# Altium integrated library Analog Devices Data Converters Analog-to-Digital Converters.IntLib: 2400 symbols (part 327 of 338)
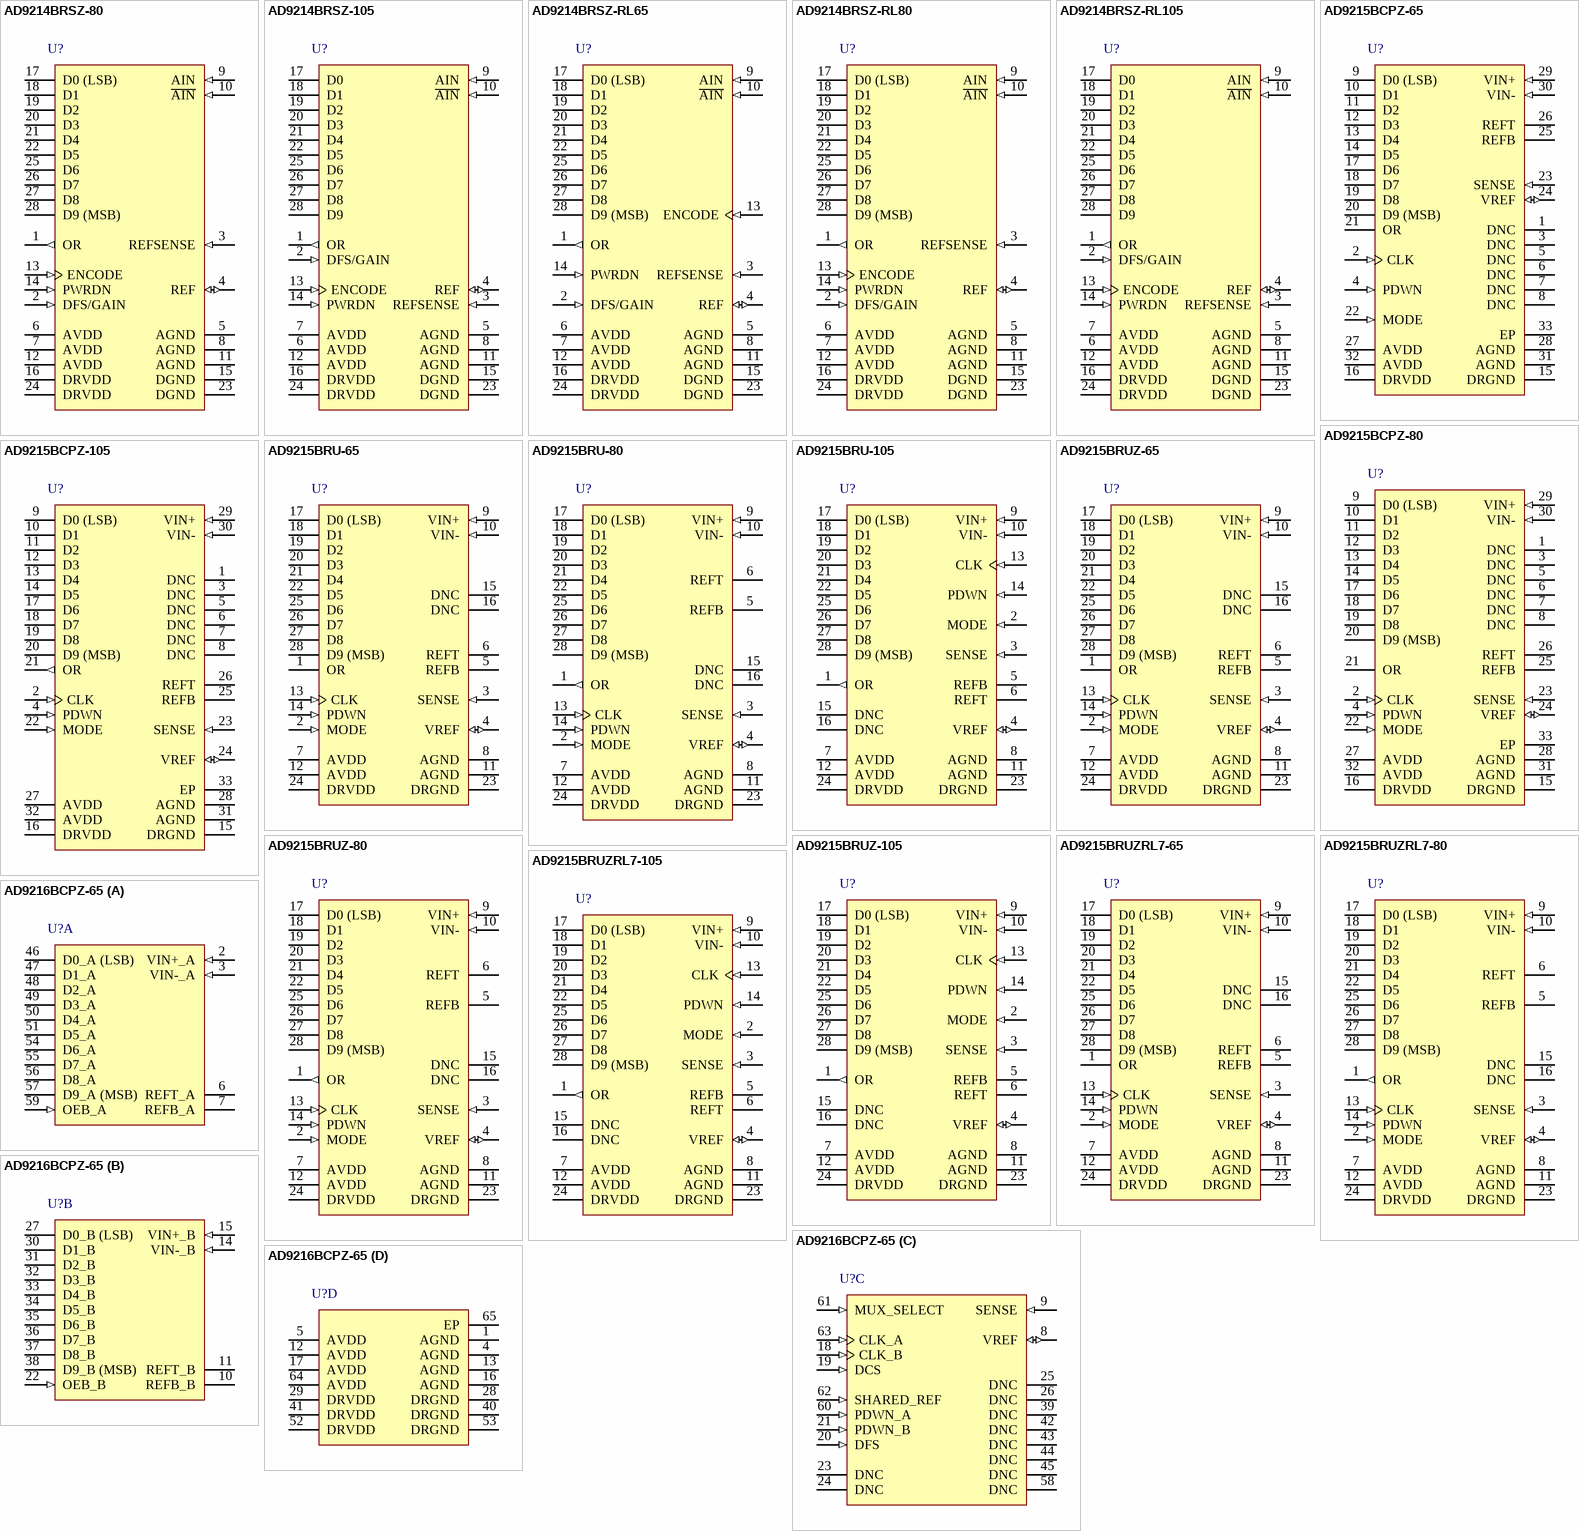
[diagram p333: symbols AD9214BRSZ-80 to AD9216BCPZ-65]

## AD9215BRUZ-65
designator U?
Single 10-Bit Analog-to-Digital Converter with Parallel Interface, 65MSPS, -40 to +85 degC, RU-28, Pb-Free, Tube; Part Number: AD9215-65; Manufacturer: Analog Devices; Resolution (Bits): 10; Channels: 1; Throughput Rate (SPS): 65M; Interface: Par; DatasheetVersion: Rev.A; PackageVersion: 2005; PackageReference: RU-28; PackageDescription: 28-Lead Thin Shrink Small Outline Package [TSSOP]; RoHS: Y; Packing: Tube; Mounting Technology: Surface Mount; Code_JEDEC: MO-153-AE; ComponentLink1Description: Manufacturer URL; ComponentLink1URL: http://www.analog.com/en/index.html; ComponentLink2Description: Datasheet; ComponentLink2URL: http://www.analog.com/static/imported-files/data_sheets/AD9215.pdf; ComponentLink3Description: Package Specification; ComponentLink3URL: http://www.analog.com/static/imported-files/packages/249854663RU_28.pdf; ComponentLink4Description: Product URL; ComponentLink4URL: http://www.analog.com/en/analog-to-digital-converters/ad-converters/ad9215/products/product.html
footprint RU-28_N (TSOP, 28-Leads, Body 9.7x4.4mm, Pitch 0.65mm, IPC Medium Density)
footprint RU-28_L (TSOP, 28-Leads, Body 9.7x4.4mm, Pitch 0.65mm, IPC High Density)
footprint RU-28_M (TSOP, 28-Leads, Body 9.7x4.4mm, Pitch 0.65mm, IPC Low Density)
pins: 1 OR (hiz) "Out-of-Range Indicator.", 2 MODE (in) "Data Format and Clock Duty Cycle Stabilizer (DCS) Mode Selection.", 3 SENSE (in) "Reference Mode Selection.", 4 VREF (io) "Voltage Reference Input/Output.", 5 REFB "Differential Reference (Negative).", 6 REFT "Differential Reference (Positive).", 7 AVDD (power) "Analog Power Supply.", 8 AGND (power) "Analog Ground.", 9 VIN+ (in) "Analog Input Pin (+).", 10 VIN- (in) "Analog Input Pin (-).", 11 AGND (power) "Analog Ground.", 12 AVDD (power) "Analog Power Supply.", 13 CLK (in) "Clock Input Pin.", 14 PDWN (in) "Power-Down Function Selection (Active High).", 15 DNC "Do not connect, recommend floating this pin.", 16 DNC "Do not connect, recommend floating this pin.", 17 D0 (LSB) (hiz) "Data Output Bits.", 18 D1 (hiz) "Data Output Bits.", 19 D2 (hiz) "Data Output Bits.", 20 D3 (hiz) "Data Output Bits.", 21 D4 (hiz) "Data Output Bits.", 22 D5 (hiz) "Data Output Bits.", 23 DRGND (power) "Digital Output Ground.", 24 DRVDD (power) "Digital Output Driver Supply. Must be decoupled to DRGND with a minimum 0.1 uF capacitor. Recommended decoupling is 0.1 uF in parallel with 10 uF.", 25 D6 (hiz) "Data Output Bits.", 26 D7 (hiz) "Data Output Bits.", 27 D8 (hiz) "Data Output Bits.", 28 D9 (MSB) (hiz) "Data Output Bits."

## AD9215BRUZ-80
designator U?
Single 10-Bit Analog-to-Digital Converter with Parallel Interface, 80MSPS, -40 to +85 degC, RU-28, Pb-Free, Tube; Part Number: AD9215-80; Manufacturer: Analog Devices; Resolution (Bits): 10; Channels: 1; Throughput Rate (SPS): 80M; Interface: Par; DatasheetVersion: Rev.A; PackageVersion: 2005; PackageReference: RU-28; PackageDescription: 28-Lead Thin Shrink Small Outline Package [TSSOP]; RoHS: Y; Packing: Tube; Mounting Technology: Surface Mount; Code_JEDEC: MO-153-AE; ComponentLink1Description: Manufacturer URL; ComponentLink1URL: http://www.analog.com/en/index.html; ComponentLink2Description: Datasheet; ComponentLink2URL: http://www.analog.com/static/imported-files/data_sheets/AD9215.pdf; ComponentLink3Description: Package Specification; ComponentLink3URL: http://www.analog.com/static/imported-files/packages/249854663RU_28.pdf; ComponentLink4Description: Product URL; ComponentLink4URL: http://www.analog.com/en/analog-to-digital-converters/ad-converters/ad9215/products/product.html
footprint RU-28_N (TSOP, 28-Leads, Body 9.7x4.4mm, Pitch 0.65mm, IPC Medium Density)
footprint RU-28_L (TSOP, 28-Leads, Body 9.7x4.4mm, Pitch 0.65mm, IPC High Density)
footprint RU-28_M (TSOP, 28-Leads, Body 9.7x4.4mm, Pitch 0.65mm, IPC Low Density)
pins: 1 OR (out) "Out-of-Range Indicator.", 2 MODE (in) "Data Format and Clock Duty Cycle Stabilizer (DCS) Mode Selection.", 3 SENSE (in) "Reference Mode Selection.", 4 VREF (io) "Voltage Reference Input/Output.", 5 REFB "Differential Reference (Negative).", 6 REFT "Differential Reference (Positive).", 7 AVDD (power) "Analog Power Supply.", 8 AGND (power) "Analog Ground.", 9 VIN+ (in) "Analog Input Pin (+).", 10 VIN- (in) "Analog Input Pin (-).", 11 AGND (power) "Analog Ground.", 12 AVDD (power) "Analog Power Supply.", 13 CLK (in) "Clock Input Pin.", 14 PDWN (in) "Power-Down Function Selection (Active High).", 15 DNC "Do not connect, recommend floating this pin.", 16 DNC "Do not connect, recommend floating this pin.", 17 D0 (LSB) (hiz) "Data Output Bits.", 18 D1 (hiz) "Data Output Bits.", 19 D2 (hiz) "Data Output Bits.", 20 D3 (hiz) "Data Output Bits.", 21 D4 (hiz) "Data Output Bits.", 22 D5 (hiz) "Data Output Bits.", 23 DRGND (power) "Digital Output Ground.", 24 DRVDD (power) "Digital Output Driver Supply. Must be decoupled to DRGND with a minimum 0.1 uF capacitor. Recommended decoupling is 0.1 uF in parallel with 10 uF.", 25 D6 (hiz) "Data Output Bits.", 26 D7 (hiz) "Data Output Bits.", 27 D8 (hiz) "Data Output Bits.", 28 D9 (MSB) (hiz) "Data Output Bits."

## AD9215BRUZ-105
designator U?
Single 10-Bit Analog-to-Digital Converter with Parallel Interface, 105MSPS, -40 to +85 degC, RU-28, Pb-Free,Tube; Part Number: AD9215-105; Manufacturer: Analog Devices; Resolution (Bits): 10; Channels: 1; Throughput Rate (SPS): 105M; Interface: Par; DatasheetVersion: Rev.A; PackageVersion: 2005; PackageReference: RU-28; PackageDescription: 28-Lead Thin Shrink Small Outline Package [TSSOP]; RoHS: Y; Packing: Tube; Mounting Technology: Surface Mount; Code_JEDEC: MO-153-AE; ComponentLink1Description: Manufacturer URL; ComponentLink1URL: http://www.analog.com/en/index.html; ComponentLink2Description: Datasheet; ComponentLink2URL: http://www.analog.com/static/imported-files/data_sheets/AD9215.pdf; ComponentLink3Description: Package Specification; ComponentLink3URL: http://www.analog.com/static/imported-files/packages/249854663RU_28.pdf; ComponentLink4Description: Product URL; ComponentLink4URL: http://www.analog.com/en/analog-to-digital-converters/ad-converters/ad9215/products/product.html
footprint RU-28_N (TSOP, 28-Leads, Body 9.7x4.4mm, Pitch 0.65mm, IPC Medium Density)
footprint RU-28_L (TSOP, 28-Leads, Body 9.7x4.4mm, Pitch 0.65mm, IPC High Density)
footprint RU-28_M (TSOP, 28-Leads, Body 9.7x4.4mm, Pitch 0.65mm, IPC Low Density)
pins: 1 OR (out) "Out-of-Range Indicator.", 2 MODE (in) "Data Format and Clock Duty Cycle Stabilizer (DCS) Mode Selection.", 3 SENSE (in) "Reference Mode Selection.", 4 VREF (io) "Voltage Reference Input/Output.", 5 REFB "Differential Reference (Negative).", 6 REFT "Differential Reference (Positive).", 7 AVDD (power) "Analog Power Supply.", 8 AGND (power) "Analog Ground.", 9 VIN+ (in) "Analog Input Pin (+).", 10 VIN- (in) "Analog Input Pin (-).", 11 AGND (power) "Analog Ground.", 12 AVDD (power) "Analog Power Supply.", 13 CLK (in) "Clock Input Pin.", 14 PDWN (in) "Power-Down Function Selection (Active High).", 15 DNC "Do not connect, recommend floating this pin.", 16 DNC "Do not connect, recommend floating this pin.", 17 D0 (LSB) (hiz) "Data Output Bits.", 18 D1 (hiz) "Data Output Bits.", 19 D2 (hiz) "Data Output Bits.", 20 D3 (hiz) "Data Output Bits.", 21 D4 (hiz) "Data Output Bits.", 22 D5 (hiz) "Data Output Bits.", 23 DRGND (power) "Digital Output Ground.", 24 DRVDD (power) "Digital Output Driver Supply. Must be decoupled to DRGND with a minimum 0.1 uF capacitor. Recommended decoupling is 0.1 uF in parallel with 10 uF.", 25 D6 (hiz) "Data Output Bits.", 26 D7 (hiz) "Data Output Bits.", 27 D8 (hiz) "Data Output Bits.", 28 D9 (MSB) (hiz) "Data Output Bits."

## AD9215BRUZRL7-65
designator U?
Single 10-Bit Analog-to-Digital Converter with Parallel Interface, 65MSPS, -40 to +85 degC, RU-28, Pb-Free, Reel; Part Number: AD9215-65; Manufacturer: Analog Devices; Resolution (Bits): 10; Channels: 1; Throughput Rate (SPS): 65M; Interface: Par; DatasheetVersion: Rev.A; PackageVersion: 2005; PackageReference: RU-28; PackageDescription: 28-Lead Thin Shrink Small Outline Package [TSSOP]; RoHS: Y; Packing: Reel; Mounting Technology: Surface Mount; Code_JEDEC: MO-153-AE; ComponentLink1Description: Manufacturer URL; ComponentLink1URL: http://www.analog.com/en/index.html; ComponentLink2Description: Datasheet; ComponentLink2URL: http://www.analog.com/static/imported-files/data_sheets/AD9215.pdf; ComponentLink3Description: Package Specification; ComponentLink3URL: http://www.analog.com/static/imported-files/packages/249854663RU_28.pdf; ComponentLink4Description: Product URL; ComponentLink4URL: http://www.analog.com/en/analog-to-digital-converters/ad-converters/ad9215/products/product.html
footprint RU-28_N (TSOP, 28-Leads, Body 9.7x4.4mm, Pitch 0.65mm, IPC Medium Density)
footprint RU-28_L (TSOP, 28-Leads, Body 9.7x4.4mm, Pitch 0.65mm, IPC High Density)
footprint RU-28_M (TSOP, 28-Leads, Body 9.7x4.4mm, Pitch 0.65mm, IPC Low Density)
pins: 1 OR (hiz) "Out-of-Range Indicator.", 2 MODE (in) "Data Format and Clock Duty Cycle Stabilizer (DCS) Mode Selection.", 3 SENSE (in) "Reference Mode Selection.", 4 VREF (io) "Voltage Reference Input/Output.", 5 REFB "Differential Reference (Negative).", 6 REFT "Differential Reference (Positive).", 7 AVDD (power) "Analog Power Supply.", 8 AGND (power) "Analog Ground.", 9 VIN+ (in) "Analog Input Pin (+).", 10 VIN- (in) "Analog Input Pin (-).", 11 AGND (power) "Analog Ground.", 12 AVDD (power) "Analog Power Supply.", 13 CLK (in) "Clock Input Pin.", 14 PDWN (in) "Power-Down Function Selection (Active High).", 15 DNC "Do not connect, recommend floating this pin.", 16 DNC "Do not connect, recommend floating this pin.", 17 D0 (LSB) (hiz) "Data Output Bits.", 18 D1 (hiz) "Data Output Bits.", 19 D2 (hiz) "Data Output Bits.", 20 D3 (hiz) "Data Output Bits.", 21 D4 (hiz) "Data Output Bits.", 22 D5 (hiz) "Data Output Bits.", 23 DRGND (power) "Digital Output Ground.", 24 DRVDD (power) "Digital Output Driver Supply. Must be decoupled to DRGND with a minimum 0.1 uF capacitor. Recommended decoupling is 0.1 uF in parallel with 10 uF.", 25 D6 (hiz) "Data Output Bits.", 26 D7 (hiz) "Data Output Bits.", 27 D8 (hiz) "Data Output Bits.", 28 D9 (MSB) (hiz) "Data Output Bits."

## AD9215BRUZRL7-80
designator U?
Single 10-Bit Analog-to-Digital Converter with Parallel Interface, 80MSPS, -40 to +85 degC, RU-28, Pb-Free, Reel; Part Number: AD9215-80; Manufacturer: Analog Devices; Resolution (Bits): 10; Channels: 1; Throughput Rate (SPS): 80M; Interface: Par; DatasheetVersion: Rev.A; PackageVersion: 2005; PackageReference: RU-28; PackageDescription: 28-Lead Thin Shrink Small Outline Package [TSSOP]; RoHS: Y; Packing: Reel; Mounting Technology: Surface Mount; Code_JEDEC: MO-153-AE; ComponentLink1Description: Manufacturer URL; ComponentLink1URL: http://www.analog.com/en/index.html; ComponentLink2Description: Datasheet; ComponentLink2URL: http://www.analog.com/static/imported-files/data_sheets/AD9215.pdf; ComponentLink3Description: Package Specification; ComponentLink3URL: http://www.analog.com/static/imported-files/packages/249854663RU_28.pdf; ComponentLink4Description: Product URL; ComponentLink4URL: http://www.analog.com/en/analog-to-digital-converters/ad-converters/ad9215/products/product.html
footprint RU-28_N (TSOP, 28-Leads, Body 9.7x4.4mm, Pitch 0.65mm, IPC Medium Density)
footprint RU-28_L (TSOP, 28-Leads, Body 9.7x4.4mm, Pitch 0.65mm, IPC High Density)
footprint RU-28_M (TSOP, 28-Leads, Body 9.7x4.4mm, Pitch 0.65mm, IPC Low Density)
pins: 1 OR (out) "Out-of-Range Indicator.", 2 MODE (in) "Data Format and Clock Duty Cycle Stabilizer (DCS) Mode Selection.", 3 SENSE (in) "Reference Mode Selection.", 4 VREF (io) "Voltage Reference Input/Output.", 5 REFB "Differential Reference (Negative).", 6 REFT "Differential Reference (Positive).", 7 AVDD (power) "Analog Power Supply.", 8 AGND (power) "Analog Ground.", 9 VIN+ (in) "Analog Input Pin (+).", 10 VIN- (in) "Analog Input Pin (-).", 11 AGND (power) "Analog Ground.", 12 AVDD (power) "Analog Power Supply.", 13 CLK (in) "Clock Input Pin.", 14 PDWN (in) "Power-Down Function Selection (Active High).", 15 DNC "Do not connect, recommend floating this pin.", 16 DNC "Do not connect, recommend floating this pin.", 17 D0 (LSB) (hiz) "Data Output Bits.", 18 D1 (hiz) "Data Output Bits.", 19 D2 (hiz) "Data Output Bits.", 20 D3 (hiz) "Data Output Bits.", 21 D4 (hiz) "Data Output Bits.", 22 D5 (hiz) "Data Output Bits.", 23 DRGND (power) "Digital Output Ground.", 24 DRVDD (power) "Digital Output Driver Supply. Must be decoupled to DRGND with a minimum 0.1 uF capacitor. Recommended decoupling is 0.1 uF in parallel with 10 uF.", 25 D6 (hiz) "Data Output Bits.", 26 D7 (hiz) "Data Output Bits.", 27 D8 (hiz) "Data Output Bits.", 28 D9 (MSB) (hiz) "Data Output Bits."

## AD9215BRUZRL7-105
designator U?
Single 10-Bit Analog-to-Digital Converter with Parallel Interface, 105MSPS, -40 to +85 degC, RU-28, Pb-Free,Reel; Part Number: AD9215-105; Manufacturer: Analog Devices; Resolution (Bits): 10; Channels: 1; Throughput Rate (SPS): 105M; Interface: Par; DatasheetVersion: Rev.A; PackageVersion: 2005; PackageReference: RU-28; PackageDescription: 28-Lead Thin Shrink Small Outline Package [TSSOP]; RoHS: Y; Packing: Reel; Mounting Technology: Surface Mount; Code_JEDEC: MO-153-AE; ComponentLink1Description: Manufacturer URL; ComponentLink1URL: http://www.analog.com/en/index.html; ComponentLink2Description: Datasheet; ComponentLink2URL: http://www.analog.com/static/imported-files/data_sheets/AD9215.pdf; ComponentLink3Description: Package Specification; ComponentLink3URL: http://www.analog.com/static/imported-files/packages/249854663RU_28.pdf; ComponentLink4Description: Product URL; ComponentLink4URL: http://www.analog.com/en/analog-to-digital-converters/ad-converters/ad9215/products/product.html
footprint RU-28_N (TSOP, 28-Leads, Body 9.7x4.4mm, Pitch 0.65mm, IPC Medium Density)
footprint RU-28_L (TSOP, 28-Leads, Body 9.7x4.4mm, Pitch 0.65mm, IPC High Density)
footprint RU-28_M (TSOP, 28-Leads, Body 9.7x4.4mm, Pitch 0.65mm, IPC Low Density)
pins: 1 OR (out) "Out-of-Range Indicator.", 2 MODE (in) "Data Format and Clock Duty Cycle Stabilizer (DCS) Mode Selection.", 3 SENSE (in) "Reference Mode Selection.", 4 VREF (io) "Voltage Reference Input/Output.", 5 REFB "Differential Reference (Negative).", 6 REFT "Differential Reference (Positive).", 7 AVDD (power) "Analog Power Supply.", 8 AGND (power) "Analog Ground.", 9 VIN+ (in) "Analog Input Pin (+).", 10 VIN- (in) "Analog Input Pin (-).", 11 AGND (power) "Analog Ground.", 12 AVDD (power) "Analog Power Supply.", 13 CLK (in) "Clock Input Pin.", 14 PDWN (in) "Power-Down Function Selection (Active High).", 15 DNC "Do not connect, recommend floating this pin.", 16 DNC "Do not connect, recommend floating this pin.", 17 D0 (LSB) (hiz) "Data Output Bits.", 18 D1 (hiz) "Data Output Bits.", 19 D2 (hiz) "Data Output Bits.", 20 D3 (hiz) "Data Output Bits.", 21 D4 (hiz) "Data Output Bits.", 22 D5 (hiz) "Data Output Bits.", 23 DRGND (power) "Digital Output Ground.", 24 DRVDD (power) "Digital Output Driver Supply. Must be decoupled to DRGND with a minimum 0.1 uF capacitor. Recommended decoupling is 0.1 uF in parallel with 10 uF.", 25 D6 (hiz) "Data Output Bits.", 26 D7 (hiz) "Data Output Bits.", 27 D8 (hiz) "Data Output Bits.", 28 D9 (MSB) (hiz) "Data Output Bits."

## AD9216BCPZ-65
designator U?
Dual 10-Bit Analog-to-Digital Converter with Parallel Interface, 65MSPS, -40 to +85 degC, CP-64-1, Pb-Free, Tray; Part Number: AD9216-65; Manufacturer: Analog Devices; Resolution (Bits): 10; Channels: 2; Throughput Rate (SPS): 65M; Interface: Par; DatasheetVersion: Rev.A; PackageVersion: Aug-2007; PackageReference: CP-64-1; PackageDescription: 64-Lead Lead Frame Chip Scale Package [LFCSP_VQ] 9 x 9 mm Body, Very Thin Quad; RoHS: Y; Packing: Tray; Mounting Technology: Surface Mount; Code_JEDEC: MO-220-VMMD-4; ComponentLink1Description: Manufacturer URL; ComponentLink1URL: http://www.analog.com/en/index.html; ComponentLink2Description: Datasheet; ComponentLink2URL: http://www.analog.com/static/imported-files/data_sheets/AD9216.pdf; ComponentLink3Description: Package Specification; ComponentLink3URL: http://www.analog.com/static/imported-files/packages/PKG_PDF/LFCSP(CP)/CP-64/CP_64_1.pdf; ComponentLink4Description: Product URL; ComponentLink4URL: http://www.analog.com/en/analog-to-digital-converters/ad-converters/ad9216/products/product.html
footprint CP-64-1 (QFN, 64-Leads, Body 9x9mm, Pitch 0.50mm, AD Recommended)
footprint CP-64-1_N (QFN, 64-Leads, Body 9x9mm, Pitch 0.5mm, Thermal Pad 4.7x4.7mm, IPC Medium Density)
footprint CP-64-1_L (QFN, 64-Leads, Body 9x9mm, Pitch 0.5mm, Thermal Pad 4.7x4.7mm, IPC High Density)
footprint CP-64-1_M (QFN, 64-Leads, Body 9x9mm, Pitch 0.5mm, Thermal Pad 4.7x4.7mm, IPC Low Density)
part A pins: 2 VIN+_A (in) "Analog Input Pin (+) for Channel A.", 3 VIN-_A (in) "Analog Input Pin (-) for Channel A.", 6 REFT_A "Differential Reference (+) for Channel A.", 7 REFB_A "Differential Reference (-) for Channel A.", 46 D0_A (LSB) (hiz) "Channel A Data Output Bits.", 47 D1_A (hiz) "Channel A Data Output Bits.", 48 D2_A (hiz) "Channel A Data Output Bits.", 49 D3_A (hiz) "Channel A Data Output Bits.", 50 D4_A (hiz) "Channel A Data Output Bits.", 51 D5_A (hiz) "Channel A Data Output Bits.", 54 D6_A (hiz) "Channel A Data Output Bits.", 55 D7_A (hiz) "Channel A Data Output Bits.", 56 D8_A (hiz) "Channel A Data Output Bits.", 57 D9_A (MSB) (hiz) "Channel A Data Output Bits.", 59 OEB_A (in) "Output Enable for Channel A. Logic 0 enables Data Bus A. Logic 1 sets outputs to High-Z."
part B pins: 10 REFB_B "Differential Reference (-) for Channel B.", 11 REFT_B "Differential Reference (+) for Channel B.", 14 VIN-_B (in) "Analog Input Pin (-) for Channel B.", 15 VIN+_B (in) "Analog Input Pin (+) for Channel B.", 22 OEB_B (in) "Output Enable for Channel B. Logic 0 enables Data Bus B. Logic 1 sets outputs to High-Z.", 27 D0_B (LSB) (hiz) "Channel B Data Output Bits.", 30 D1_B (hiz) "Channel B Data Output Bits.", 31 D2_B (hiz) "Channel B Data Output Bits.", 32 D3_B (hiz) "Channel B Data Output Bits.", 33 D4_B (hiz) "Channel B Data Output Bits.", 34 D5_B (hiz) "Channel B Data Output Bits.", 35 D6_B (hiz) "Channel B Data Output Bits.", 36 D7_B (hiz) "Channel B Data Output Bits.", 37 D8_B (hiz) "Channel B Data Output Bits.", 38 D9_B (MSB) (hiz) "Channel B Data Output Bits."
part C pins: 8 VREF (io) "Voltage Reference Input/Output.", 9 SENSE (in) "Reference Mode Selection.", 18 CLK_B (in) "Clock Input Pin for Channel B.", 19 DCS (in) "Duty Cycle Stabilizer (DCS) Mode Pin (Active High).", 20 DFS (in) "Data Output Format Select Pin. Low for offset binary; high for twos complement.", 21 PDWN_B (in) "Power-Down Function Selection for Channel B. Logic 0 enables Channel B. Logic 1 powers down Channel B. (Outputs static, not High-Z.)", 23 DNC "Do Not Connect Pins. Should be left floating.", 24 DNC "Do Not Connect Pins. Should be left floating.", 25 DNC "Do Not Connect Pins. Should be left floating.", 26 DNC "Do Not Connect Pins. Should be left floating.", 39 DNC "Do Not Connect Pins. Should be left floating.", 42 DNC "Do Not Connect Pins. Should be left floating.", 43 DNC "Do Not Connect Pins. Should be left floating.", 44 DNC "Do Not Connect Pins. Should be left floating.", 45 DNC "Do Not Connect Pins. Should be left floating.", 58 DNC "Do Not Connect Pins. Should be left floating.", 60 PDWN_A (in) "Power-Down Function Selection for Channel A. Logic 0 enables Channel A. Logic 1 powers down Channel A. (Outputs static, not High-Z.)", 61 MUX_SELECT (in) "Data Multiplexed Mode. (See Data Format section for how to enable.)", 62 SHARED_REF (in) "Shared Reference Control Bit. Low for independent reference mode; high for shared reference mode.", 63 CLK_A (in) "Clock Input Pin for Channel A."
part D pins: 1 AGND (power) "Analog Ground.", 4 AGND (power) "Analog Ground.", 5 AVDD (power) "Analog Power Supply.", 12 AVDD (power) "Analog Power Supply.", 13 AGND (power) "Analog Ground.", 16 AGND (power) "Analog Ground.", 17 AVDD (power) "Analog Power Supply.", 28 DRGND (power) "Digital Output Ground.", 29 DRVDD (power) "Digital Output Driver Supply. Must be decoupled to DRGND with a minimum 0.1 µF capacitor.  Recommended decoupling is 0.1 µF capacitor in parallel with 10 µF.", 40 DRGND (power) "Digital Output Ground.", 41 DRVDD (power) "Digital Output Driver Supply. Must be decoupled to DRGND with a minimum 0.1 uF capacitor.  Recommended decoupling is 0.1 uF capacitor in parallel with 10 uF.", 52 DRVDD (power) "Digital Output Driver Supply. Must be decoupled to DRGND with a minimum 0.1 uF capacitor.  Recommended decoupling is 0.1 uF capacitor in parallel with 10 uF.", 53 DRGND (power) "Digital Output Ground.", 64 AVDD (power) "Analog Power Supply.", 65 EP (power) "Exposed Pad"

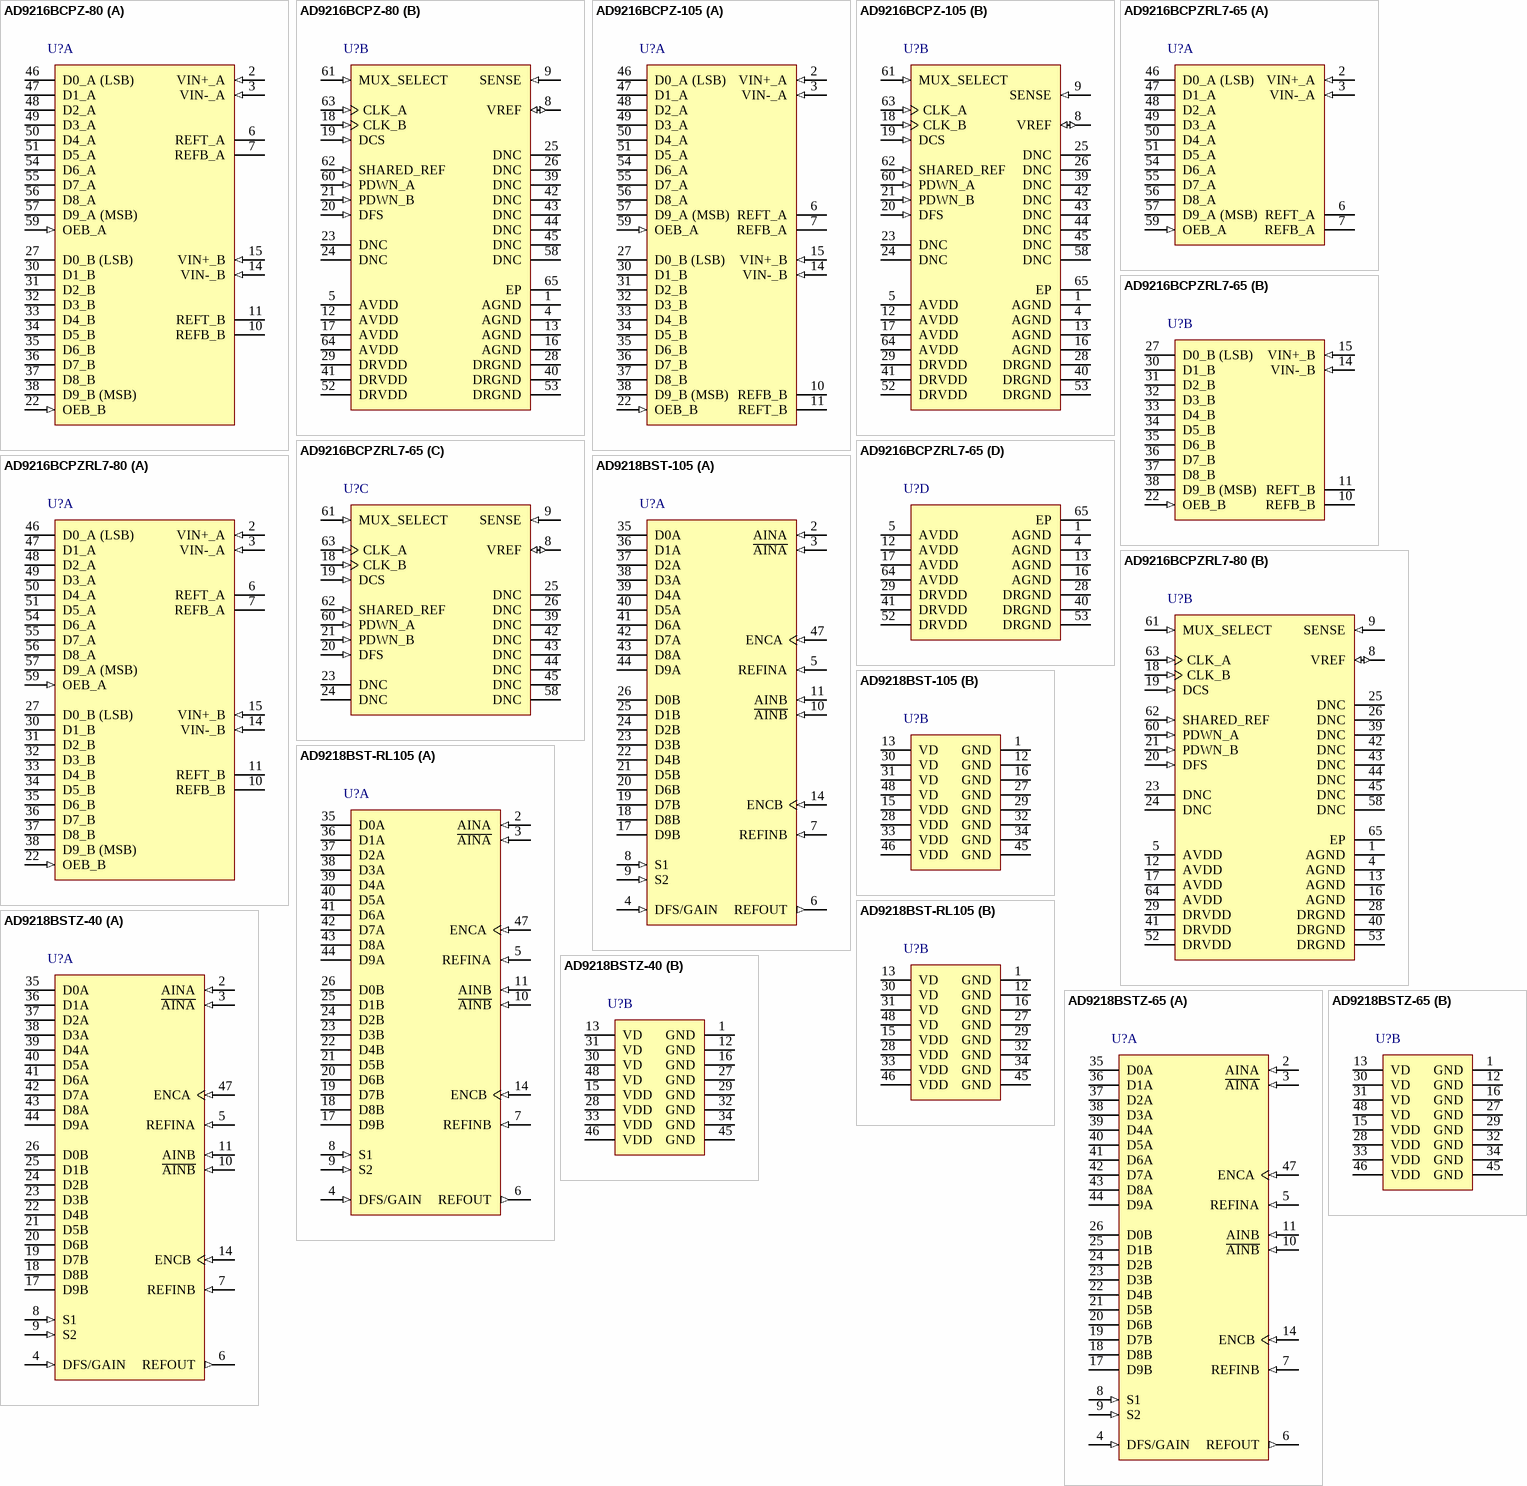
[diagram p101: symbols AD9216BCPZ-80 to AD9218BSTZ-65]

## AD9216BCPZ-80
designator U?
Dual 10-Bit Analog-to-Digital Converter with Parallel Interface, 80MSPS, -40 to +85 degC, CP-64-1, Pb-Free, Tray; Part Number: AD9216-80; Manufacturer: Analog Devices; Resolution (Bits): 10; Channels: 2; Throughput Rate (SPS): 80M; Interface: Par; DatasheetVersion: Rev.A; PackageVersion: Aug-2007; PackageReference: CP-64-1; PackageDescription: 64-Lead Lead Frame Chip Scale Package [LFCSP_VQ] 9 x 9 mm Body, Very Thin Quad; RoHS: Y; Packing: Tray; Mounting Technology: Surface Mount; Code_JEDEC: MO-220-VMMD-4; ComponentLink1Description: Manufacturer URL; ComponentLink1URL: http://www.analog.com/en/index.html; ComponentLink2Description: Datasheet; ComponentLink2URL: http://www.analog.com/static/imported-files/data_sheets/AD9216.pdf; ComponentLink3Description: Package Specification; ComponentLink3URL: http://www.analog.com/static/imported-files/packages/PKG_PDF/LFCSP(CP)/CP-64/CP_64_1.pdf; ComponentLink4Description: Product URL; ComponentLink4URL: http://www.analog.com/en/analog-to-digital-converters/ad-converters/ad9216/products/product.html
footprint CP-64-1 (QFN, 64-Leads, Body 9x9mm, Pitch 0.50mm, AD Recommended)
footprint CP-64-1_N (QFN, 64-Leads, Body 9x9mm, Pitch 0.5mm, Thermal Pad 4.7x4.7mm, IPC Medium Density)
footprint CP-64-1_L (QFN, 64-Leads, Body 9x9mm, Pitch 0.5mm, Thermal Pad 4.7x4.7mm, IPC High Density)
footprint CP-64-1_M (QFN, 64-Leads, Body 9x9mm, Pitch 0.5mm, Thermal Pad 4.7x4.7mm, IPC Low Density)
part A pins: 2 VIN+_A (in) "Analog Input Pin (+) for Channel A.", 3 VIN-_A (in) "Analog Input Pin (-) for Channel A.", 6 REFT_A "Differential Reference (+) for Channel A.", 7 REFB_A "Differential Reference (-) for Channel A.", 10 REFB_B "Differential Reference (-) for Channel B.", 11 REFT_B "Differential Reference (+) for Channel B.", 14 VIN-_B (in) "Analog Input Pin (-) for Channel B.", 15 VIN+_B (in) "Analog Input Pin (+) for Channel B.", 22 OEB_B (in) "Output Enable for Channel B.  Logic 0 enables Data Bus B.  Logic 1 sets outputs to High-Z.", 27 D0_B (LSB) (hiz) "Channel B Data Output Bits.", 30 D1_B (hiz) "Channel B Data Output Bits.", 31 D2_B (hiz) "Channel B Data Output Bits.", 32 D3_B (hiz) "Channel B Data Output Bits.", 33 D4_B (hiz) "Channel B Data Output Bits.", 34 D5_B (hiz) "Channel B Data Output Bits.", 35 D6_B (hiz) "Channel B Data Output Bits.", 36 D7_B (hiz) "Channel B Data Output Bits.", 37 D8_B (hiz) "Channel B Data Output Bits.", 38 D9_B (MSB) (hiz) "Channel B Data Output Bits.", 46 D0_A (LSB) (hiz) "Channel A Data Output Bits.", 47 D1_A (hiz) "Channel A Data Output Bits.", 48 D2_A (hiz) "Channel A Data Output Bits.", 49 D3_A (hiz) "Channel A Data Output Bits.", 50 D4_A (hiz) "Channel A Data Output Bits.", 51 D5_A (hiz) "Channel A Data Output Bits.", 54 D6_A (hiz) "Channel A Data Output Bits.", 55 D7_A (hiz) "Channel A Data Output Bits.", 56 D8_A (hiz) "Channel A Data Output Bits.", 57 D9_A (MSB) (hiz) "Channel A Data Output Bits.", 59 OEB_A (in) "Output Enable for Channel A. Logic 0 enables Data Bus A. Logic 1 sets outputs to High-Z."
part B pins: 1 AGND (power) "Analog Ground.", 4 AGND (power) "Analog Ground.", 5 AVDD (power) "Analog Power Supply.", 8 VREF (io) "Voltage Reference Input/Output.", 9 SENSE (in) "Reference Mode Selection.", 12 AVDD (power) "Analog Power Supply.", 13 AGND (power) "Analog Ground.", 16 AGND (power) "Analog Ground.", 17 AVDD (power) "Analog Power Supply.", 18 CLK_B (in) "Clock Input Pin for Channel B.", 19 DCS (in) "Duty Cycle Stabilizer (DCS) Mode Pin (Active High).", 20 DFS (in) "Data Output Format Select Pin. Low for offset binary; high for twos complement.", 21 PDWN_B (in) "Power-Down Function Selection for Channel B.  Logic 0 enables Channel B.  Logic 1 powers down Channel B. (Outputs static, not High-Z.)", 23 DNC "Do Not Connect Pins. Should be left floating.", 24 DNC "Do Not Connect Pins. Should be left floating.", 25 DNC "Do Not Connect Pins. Should be left floating.", 26 DNC "Do Not Connect Pins. Should be left floating.", 28 DRGND (power) "Digital Output Ground.", 29 DRVDD (power) "Digital Output Driver Supply. Must be decoupled to DRGND with a minimum 0.1 µF capacitor.  Recommended decoupling is 0.1 µF capacitor in parallel with 10 µF.", 39 DNC "Do Not Connect Pins. Should be left floating.", 40 DRGND (power) "Digital Output Ground.", 41 DRVDD (power) "Digital Output Driver Supply. Must be decoupled to DRGND with a minimum 0.1 µF capacitor.  Recommended decoupling is 0.1 µF capacitor in parallel with 10 µF.", 42 DNC "Do Not Connect Pins. Should be left floating.", 43 DNC "Do Not Connect Pins. Should be left floating.", 44 DNC "Do Not Connect Pins. Should be left floating.", 45 DNC "Do Not Connect Pins. Should be left floating.", 52 DRVDD (power) "Digital Output Driver Supply. Must be decoupled to DRGND with a minimum 0.1 µF capacitor.  Recommended decoupling is 0.1 µF capacitor in parallel with 10 µF.", 53 DRGND (power) "Digital Output Ground.", 58 DNC "Do Not Connect Pins. Should be left floating.", 60 PDWN_A (in) "Power-Down Function Selection for Channel A. Logic 0 enables Channel A. Logic 1 powers down Channel A. (Outputs static, not High-Z.)", 61 MUX_SELECT (in) "Data Multiplexed Mode. (See Data Format section for how to enable.)", 62 SHARED_REF (in) "Shared Reference Control Bit. Low for independent reference mode; high for shared reference mode.", 63 CLK_A (in) "Clock Input Pin for Channel A", 64 AVDD (power) "Analog Power Supply.", 65 EP "Exposed Pad."

## AD9216BCPZ-105
designator U?
Dual 10-Bit Analog-to-Digital Converter with Parallel Interface, 105MSPS, -40 to +85 degC, CP-64-1, Pb-Free, Tray; Part Number: AD9216-105; Manufacturer: Analog Devices; Resolution (Bits): 10; Channels: 2; Throughput Rate (SPS): 105M; Interface: Par; DatasheetVersion: Rev.A; PackageVersion: Aug-2007; PackageReference: CP-64-1; PackageDescription: 64-Lead Lead Frame Chip Scale Package [LFCSP_VQ] 9 x 9 mm Body, Very Thin Quad; RoHS: Y; Packing: Tray; Mounting Technology: Surface Mount; Code_JEDEC: MO-220-VMMD-4; ComponentLink1Description: Manufacturer URL; ComponentLink1URL: http://www.analog.com/en/index.html; ComponentLink2Description: Datasheet; ComponentLink2URL: http://www.analog.com/static/imported-files/data_sheets/AD9216.pdf; ComponentLink3Description: Package Specification; ComponentLink3URL: http://www.analog.com/static/imported-files/packages/PKG_PDF/LFCSP(CP)/CP-64/CP_64_1.pdf; ComponentLink4Description: Product URL; ComponentLink4URL: http://www.analog.com/en/analog-to-digital-converters/ad-converters/ad9216/products/product.html
footprint CP-64-1 (QFN, 64-Leads, Body 9x9mm, Pitch 0.50mm, AD Recommended)
footprint CP-64-1_N (QFN, 64-Leads, Body 9x9mm, Pitch 0.5mm, Thermal Pad 4.7x4.7mm, IPC Medium Density)
footprint CP-64-1_L (QFN, 64-Leads, Body 9x9mm, Pitch 0.5mm, Thermal Pad 4.7x4.7mm, IPC High Density)
footprint CP-64-1_M (QFN, 64-Leads, Body 9x9mm, Pitch 0.5mm, Thermal Pad 4.7x4.7mm, IPC Low Density)
part A pins: 2 VIN+_A (in) "Analog Input Pin (+) for Channel A.", 3 VIN-_A (in) "Analog Input Pin (-) for Channel A.", 6 REFT_A "Differential Reference (+) for Channel A.", 7 REFB_A "Differential Reference (-) for Channel A.", 10 REFB_B "Differential Reference (-) for Channel B.", 11 REFT_B "Differential Reference (+) for Channel B.", 14 VIN-_B (in) "Analog Input Pin (-) for Channel B.", 15 VIN+_B (in) "Analog Input Pin (+) for Channel B.", 22 OEB_B (in) "Output Enable for Channel B. Logic 0 enables Data Bus B. Logic 1 sets outputs to High-Z.", 27 D0_B (LSB) (hiz) "Channel B Data Output Bits.", 30 D1_B (hiz) "Channel B Data Output Bits.", 31 D2_B (hiz) "Channel B Data Output Bits.", 32 D3_B (hiz) "Channel B Data Output Bits.", 33 D4_B (hiz) "Channel B Data Output Bits.", 34 D5_B (hiz) "Channel B Data Output Bits.", 35 D6_B (hiz) "Channel B Data Output Bits.", 36 D7_B (hiz) "Channel B Data Output Bits.", 37 D8_B (hiz) "Channel B Data Output Bits.", 38 D9_B (MSB) (hiz) "Channel B Data Output Bits.", 46 D0_A (LSB) (hiz) "Channel A Data Output Bits.", 47 D1_A (hiz) "Channel A Data Output Bits.", 48 D2_A (hiz) "Channel A Data Output Bits.", 49 D3_A (hiz) "Channel A Data Output Bits.", 50 D4_A (hiz) "Channel A Data Output Bits.", 51 D5_A (hiz) "Channel A Data Output Bits.", 54 D6_A (hiz) "Channel A Data Output Bits.", 55 D7_A (hiz) "Channel A Data Output Bits.", 56 D8_A (hiz) "Channel A Data Output Bits.", 57 D9_A (MSB) (hiz) "Channel A Data Output Bits.", 59 OEB_A (in) "Output Enable for Channel A. Logic 0 enables Data Bus A. Logic 1 sets outputs to High-Z."
part B pins: 1 AGND (power) "Analog Ground.", 4 AGND (power) "Analog Ground.", 5 AVDD (power) "Analog Power Supply.", 8 VREF (io) "Voltage Reference Input/Output.", 9 SENSE (in) "Reference Mode Selection.", 12 AVDD (power) "Analog Power Supply.", 13 AGND (power) "Analog Ground.", 16 AGND (power) "Analog Ground.", 17 AVDD (power) "Analog Power Supply.", 18 CLK_B (in) "Clock Input Pin for Channel B.", 19 DCS (in) "Duty Cycle Stabilizer (DCS) Mode Pin (Active High).", 20 DFS (in) "Data Output Format Select Pin. Low for offset binary; high for twos complement.", 21 PDWN_B (in) "Power-Down Function Selection for Channel B. Logic 0 enables Channel B. Logic 1 powers down Channel B. (Outputs static, not High-Z.)", 23 DNC "Do Not Connect Pins. Should be left floating.", 24 DNC "Do Not Connect Pins. Should be left floating.", 25 DNC "Do Not Connect Pins. Should be left floating.", 26 DNC "Do Not Connect Pins. Should be left floating.", 28 DRGND (power) "Digital Output Ground.", 29 DRVDD (power) "Digital Output Driver Supply. Must be decoupled to DRGND with a minimum 0.1 uF capacitor.  Recommended decoupling is 0.1 uF capacitor in parallel with 10 uF.", 39 DNC "Do Not Connect Pins. Should be left floating.", 40 DRGND (power) "Digital Output Ground.", 41 DRVDD (power) "Digital Output Driver Supply. Must be decoupled to DRGND with a minimum 0.1 uF capacitor.  Recommended decoupling is 0.1 uF capacitor in parallel with 10 uF.", 42 DNC "Do Not Connect Pins. Should be left floating.", 43 DNC "Do Not Connect Pins. Should be left floating.", 44 DNC "Do Not Connect Pins. Should be left floating.", 45 DNC "Do Not Connect Pins. Should be left floating.", 52 DRVDD (power) "Digital Output Driver Supply. Must be decoupled to DRGND with a minimum 0.1 uF capacitor.  Recommended decoupling is 0.1 uF capacitor in parallel with 10 uF.", 53 DRGND (power) "Digital Output Ground.", 58 DNC "Do Not Connect Pins. Should be left floating.", 60 PDWN_A (in) "Power-Down Function Selection for Channel A. Logic 0 enables Channel A. Logic 1 powers down Channel A. (Outputs static, not High-Z.)", 61 MUX_SELECT (in) "Data Multiplexed Mode. (See Data Format section for how to enable.)", 62 SHARED_REF (in) "Shared Reference Control Bit. Low for independent reference mode; high for shared reference mode.", 63 CLK_A (in) "Clock Input Pin for Channel A.", 64 AVDD (power) "Analog Power Supply.", 65 EP (power) "Analog Ground (Exposed Paddle)"

## AD9216BCPZRL7-65
designator U?
Dual 10-Bit Analog-to-Digital Converter with Parallel Interface, 65MSPS, -40 to +85 degC, CP-64-1, Pb-Free, Reel; Part Number: AD9216-65; Manufacturer: Analog Devices; Resolution (Bits): 10; Channels: 2; Throughput Rate (SPS): 65M; Interface: Par; DatasheetVersion: Rev.A; PackageVersion: Aug-2007; PackageReference: CP-64-1; PackageDescription: 64-Lead Lead Frame Chip Scale Package [LFCSP_VQ] 9 x 9 mm Body, Very Thin Quad; RoHS: Y; Packing: Reel; Mounting Technology: Surface Mount; Code_JEDEC: MO-220-VMMD-4; ComponentLink1Description: Manufacturer URL; ComponentLink1URL: http://www.analog.com/en/index.html; ComponentLink2Description: Datasheet; ComponentLink2URL: http://www.analog.com/static/imported-files/data_sheets/AD9216.pdf; ComponentLink3Description: Package Specification; ComponentLink3URL: http://www.analog.com/static/imported-files/packages/PKG_PDF/LFCSP(CP)/CP-64/CP_64_1.pdf; ComponentLink4Description: Product URL; ComponentLink4URL: http://www.analog.com/en/analog-to-digital-converters/ad-converters/ad9216/products/product.html
footprint CP-64-1 (QFN, 64-Leads, Body 9x9mm, Pitch 0.50mm, AD Recommended)
footprint CP-64-1_N (QFN, 64-Leads, Body 9x9mm, Pitch 0.5mm, Thermal Pad 4.7x4.7mm, IPC Medium Density)
footprint CP-64-1_L (QFN, 64-Leads, Body 9x9mm, Pitch 0.5mm, Thermal Pad 4.7x4.7mm, IPC High Density)
footprint CP-64-1_M (QFN, 64-Leads, Body 9x9mm, Pitch 0.5mm, Thermal Pad 4.7x4.7mm, IPC Low Density)
part A pins: 2 VIN+_A (in) "Analog Input Pin (+) for Channel A.", 3 VIN-_A (in) "Analog Input Pin (-) for Channel A.", 6 REFT_A "Differential Reference (+) for Channel A.", 7 REFB_A "Differential Reference (-) for Channel A.", 46 D0_A (LSB) (hiz) "Channel A Data Output Bits.", 47 D1_A (hiz) "Channel A Data Output Bits.", 48 D2_A (hiz) "Channel A Data Output Bits.", 49 D3_A (hiz) "Channel A Data Output Bits.", 50 D4_A (hiz) "Channel A Data Output Bits.", 51 D5_A (hiz) "Channel A Data Output Bits.", 54 D6_A (hiz) "Channel A Data Output Bits.", 55 D7_A (hiz) "Channel A Data Output Bits.", 56 D8_A (hiz) "Channel A Data Output Bits.", 57 D9_A (MSB) (hiz) "Channel A Data Output Bits.", 59 OEB_A (in) "Output Enable for Channel A. Logic 0 enables Data Bus A. Logic 1 sets outputs to High-Z."
part B pins: 10 REFB_B "Differential Reference (-) for Channel B.", 11 REFT_B "Differential Reference (+) for Channel B.", 14 VIN-_B (in) "Analog Input Pin (-) for Channel B.", 15 VIN+_B (in) "Analog Input Pin (+) for Channel B.", 22 OEB_B (in) "Output Enable for Channel B. Logic 0 enables Data Bus B. Logic 1 sets outputs to High-Z.", 27 D0_B (LSB) (hiz) "Channel B Data Output Bits.", 30 D1_B (hiz) "Channel B Data Output Bits.", 31 D2_B (hiz) "Channel B Data Output Bits.", 32 D3_B (hiz) "Channel B Data Output Bits.", 33 D4_B (hiz) "Channel B Data Output Bits.", 34 D5_B (hiz) "Channel B Data Output Bits.", 35 D6_B (hiz) "Channel B Data Output Bits.", 36 D7_B (hiz) "Channel B Data Output Bits.", 37 D8_B (hiz) "Channel B Data Output Bits.", 38 D9_B (MSB) (hiz) "Channel B Data Output Bits."
part C pins: 8 VREF (io) "Voltage Reference Input/Output.", 9 SENSE (in) "Reference Mode Selection.", 18 CLK_B (in) "Clock Input Pin for Channel B.", 19 DCS (in) "Duty Cycle Stabilizer (DCS) Mode Pin (Active High).", 20 DFS (in) "Data Output Format Select Pin. Low for offset binary; high for twos complement.", 21 PDWN_B (in) "Power-Down Function Selection for Channel B. Logic 0 enables Channel B. Logic 1 powers down Channel B. (Outputs static, not High-Z.)", 23 DNC "Do Not Connect Pins. Should be left floating.", 24 DNC "Do Not Connect Pins. Should be left floating.", 25 DNC "Do Not Connect Pins. Should be left floating.", 26 DNC "Do Not Connect Pins. Should be left floating.", 39 DNC "Do Not Connect Pins. Should be left floating.", 42 DNC "Do Not Connect Pins. Should be left floating.", 43 DNC "Do Not Connect Pins. Should be left floating.", 44 DNC "Do Not Connect Pins. Should be left floating.", 45 DNC "Do Not Connect Pins. Should be left floating.", 58 DNC "Do Not Connect Pins. Should be left floating.", 60 PDWN_A (in) "Power-Down Function Selection for Channel A. Logic 0 enables Channel A. Logic 1 powers down Channel A. (Outputs static, not High-Z.)", 61 MUX_SELECT (in) "Data Multiplexed Mode. (See Data Format section for how to enable.)", 62 SHARED_REF (in) "Shared Reference Control Bit. Low for independent reference mode; high for shared reference mode.", 63 CLK_A (in) "Clock Input Pin for Channel A."
part D pins: 1 AGND (power) "Analog Ground.", 4 AGND (power) "Analog Ground.", 5 AVDD (power) "Analog Power Supply.", 12 AVDD (power) "Analog Power Supply.", 13 AGND (power) "Analog Ground.", 16 AGND (power) "Analog Ground.", 17 AVDD (power) "Analog Power Supply.", 28 DRGND (power) "Digital Output Ground.", 29 DRVDD (power) "Digital Output Driver Supply. Must be decoupled to DRGND with a minimum 0.1 µF capacitor.  Recommended decoupling is 0.1 µF capacitor in parallel with 10 µF.", 40 DRGND (power) "Digital Output Ground.", 41 DRVDD (power) "Digital Output Driver Supply. Must be decoupled to DRGND with a minimum 0.1 uF capacitor.  Recommended decoupling is 0.1 uF capacitor in parallel with 10 uF.", 52 DRVDD (power) "Digital Output Driver Supply. Must be decoupled to DRGND with a minimum 0.1 uF capacitor.  Recommended decoupling is 0.1 uF capacitor in parallel with 10 uF.", 53 DRGND (power) "Digital Output Ground.", 64 AVDD (power) "Analog Power Supply.", 65 EP (power) "Exposed Pad"

## AD9216BCPZRL7-80
designator U?
Dual 10-Bit Analog-to-Digital Converter with Parallel Interface, 80MSPS, -40 to +85 degC, CP-64-1, Pb-Free, Reel; Part Number: AD9216-80; Manufacturer: Analog Devices; Resolution (Bits): 10; Channels: 2; Throughput Rate (SPS): 80M; Interface: Par; DatasheetVersion: Rev.A; PackageVersion: Aug-2007; PackageReference: CP-64-1; PackageDescription: 64-Lead Lead Frame Chip Scale Package [LFCSP_VQ] 9 x 9 mm Body, Very Thin Quad; RoHS: Y; Packing: Reel; Mounting Technology: Surface Mount; Code_JEDEC: MO-220-VMMD-4; ComponentLink1Description: Manufacturer URL; ComponentLink1URL: http://www.analog.com/en/index.html; ComponentLink2Description: Datasheet; ComponentLink2URL: http://www.analog.com/static/imported-files/data_sheets/AD9216.pdf; ComponentLink3Description: Package Specification; ComponentLink3URL: http://www.analog.com/static/imported-files/packages/PKG_PDF/LFCSP(CP)/CP-64/CP_64_1.pdf; ComponentLink4Description: Product URL; ComponentLink4URL: http://www.analog.com/en/analog-to-digital-converters/ad-converters/ad9216/products/product.html
footprint CP-64-1 (QFN, 64-Leads, Body 9x9mm, Pitch 0.50mm, AD Recommended)
footprint CP-64-1_N (QFN, 64-Leads, Body 9x9mm, Pitch 0.5mm, Thermal Pad 4.7x4.7mm, IPC Medium Density)
footprint CP-64-1_L (QFN, 64-Leads, Body 9x9mm, Pitch 0.5mm, Thermal Pad 4.7x4.7mm, IPC High Density)
footprint CP-64-1_M (QFN, 64-Leads, Body 9x9mm, Pitch 0.5mm, Thermal Pad 4.7x4.7mm, IPC Low Density)
part A pins: 2 VIN+_A (in) "Analog Input Pin (+) for Channel A.", 3 VIN-_A (in) "Analog Input Pin (-) for Channel A.", 6 REFT_A "Differential Reference (+) for Channel A.", 7 REFB_A "Differential Reference (-) for Channel A.", 10 REFB_B "Differential Reference (-) for Channel B.", 11 REFT_B "Differential Reference (+) for Channel B.", 14 VIN-_B (in) "Analog Input Pin (-) for Channel B.", 15 VIN+_B (in) "Analog Input Pin (+) for Channel B.", 22 OEB_B (in) "Output Enable for Channel B.  Logic 0 enables Data Bus B.  Logic 1 sets outputs to High-Z.", 27 D0_B (LSB) (hiz) "Channel B Data Output Bits.", 30 D1_B (hiz) "Channel B Data Output Bits.", 31 D2_B (hiz) "Channel B Data Output Bits.", 32 D3_B (hiz) "Channel B Data Output Bits.", 33 D4_B (hiz) "Channel B Data Output Bits.", 34 D5_B (hiz) "Channel B Data Output Bits.", 35 D6_B (hiz) "Channel B Data Output Bits.", 36 D7_B (hiz) "Channel B Data Output Bits.", 37 D8_B (hiz) "Channel B Data Output Bits.", 38 D9_B (MSB) (hiz) "Channel B Data Output Bits.", 46 D0_A (LSB) (hiz) "Channel A Data Output Bits.", 47 D1_A (hiz) "Channel A Data Output Bits.", 48 D2_A (hiz) "Channel A Data Output Bits.", 49 D3_A (hiz) "Channel A Data Output Bits.", 50 D4_A (hiz) "Channel A Data Output Bits.", 51 D5_A (hiz) "Channel A Data Output Bits.", 54 D6_A (hiz) "Channel A Data Output Bits.", 55 D7_A (hiz) "Channel A Data Output Bits.", 56 D8_A (hiz) "Channel A Data Output Bits.", 57 D9_A (MSB) (hiz) "Channel A Data Output Bits.", 59 OEB_A (in) "Output Enable for Channel A. Logic 0 enables Data Bus A. Logic 1 sets outputs to High-Z."
part B pins: 1 AGND (power) "Analog Ground.", 4 AGND (power) "Analog Ground.", 5 AVDD (power) "Analog Power Supply.", 8 VREF (io) "Voltage Reference Input/Output.", 9 SENSE (in) "Reference Mode Selection.", 12 AVDD (power) "Analog Power Supply.", 13 AGND (power) "Analog Ground.", 16 AGND (power) "Analog Ground.", 17 AVDD (power) "Analog Power Supply.", 18 CLK_B (in) "Clock Input Pin for Channel B.", 19 DCS (in) "Duty Cycle Stabilizer (DCS) Mode Pin (Active High).", 20 DFS (in) "Data Output Format Select Pin. Low for offset binary; high for twos complement.", 21 PDWN_B (in) "Power-Down Function Selection for Channel B.  Logic 0 enables Channel B.  Logic 1 powers down Channel B. (Outputs static, not High-Z.)", 23 DNC "Do Not Connect Pins. Should be left floating.", 24 DNC "Do Not Connect Pins. Should be left floating.", 25 DNC "Do Not Connect Pins. Should be left floating.", 26 DNC "Do Not Connect Pins. Should be left floating.", 28 DRGND (power) "Digital Output Ground.", 29 DRVDD (power) "Digital Output Driver Supply. Must be decoupled to DRGND with a minimum 0.1 µF capacitor.  Recommended decoupling is 0.1 µF capacitor in parallel with 10 µF.", 39 DNC "Do Not Connect Pins. Should be left floating.", 40 DRGND (power) "Digital Output Ground.", 41 DRVDD (power) "Digital Output Driver Supply. Must be decoupled to DRGND with a minimum 0.1 µF capacitor.  Recommended decoupling is 0.1 µF capacitor in parallel with 10 µF.", 42 DNC "Do Not Connect Pins. Should be left floating.", 43 DNC "Do Not Connect Pins. Should be left floating.", 44 DNC "Do Not Connect Pins. Should be left floating.", 45 DNC "Do Not Connect Pins. Should be left floating.", 52 DRVDD (power) "Digital Output Driver Supply. Must be decoupled to DRGND with a minimum 0.1 µF capacitor.  Recommended decoupling is 0.1 µF capacitor in parallel with 10 µF.", 53 DRGND (power) "Digital Output Ground.", 58 DNC "Do Not Connect Pins. Should be left floating.", 60 PDWN_A (in) "Power-Down Function Selection for Channel A. Logic 0 enables Channel A. Logic 1 powers down Channel A. (Outputs static, not High-Z.)", 61 MUX_SELECT (in) "Data Multiplexed Mode. (See Data Format section for how to enable.)", 62 SHARED_REF (in) "Shared Reference Control Bit. Low for independent reference mode; high for shared reference mode.", 63 CLK_A (in) "Clock Input Pin for Channel A", 64 AVDD (power) "Analog Power Supply.", 65 EP "Exposed Pad."

## AD9218BST-105
designator U?
Dual 10-Bit Analog-to-Digital Converter with Parallel Interface, 3 V, 105MSPS, -40 to +85 degC, ST-48, Tray; Part Number: AD9218-105; Manufacturer: Analog Devices; Resolution (Bits): 10; Channels: 2; Throughput Rate (SPS): 105M; Interface: Par; DatasheetVersion: Rev.C; PackageVersion: revA; PackageReference: ST-48; PackageDescription: 48-Pin Thin Quad Flat Pack 0.5 mm Pitch; RoHS: N; Packing: Tray; Mounting Technology: Surface Mount; ComponentLink1Description: Manufacturer URL; ComponentLink1URL: http://www.analog.com/en/index.html; ComponentLink2Description: Datasheet; ComponentLink2URL: http://www.analog.com/static/imported-files/data_sheets/AD9218.pdf; ComponentLink3Description: Package Specification; ComponentLink3URL: http://www.analog.com/static/imported-files/packages/PKG_PDF/LQFP%28ST%29/ST_48.pdf; ComponentLink4Description: Product URL; ComponentLink4URL: http://www.analog.com/en/analog-to-digital-converters/ad-converters/ad9218/products/product.html
footprint ST-48_N (Thin QFP, 48-Leads, Body 7x7mm, Pitch 0.5mm, IPC Medium Density)
footprint ST-48_L (Thin QFP, 48-Leads, Body 7x7mm, Pitch 0.5mm, IPC High Density)
footprint ST-48_M (Thin QFP, 48-Leads, Body 7x7mm, Pitch 0.5mm, IPC Low Density)
part A pins: 2 AINA (in) "Analog Input for Channel A.", 3 ~{AINA} (in) "Analog Input for Channel A (Complementary).", 4 DFS/GAIN (in) "Data Format Select and Analog Input Gain Mode. Low = offset binary output available, 1 V p-p supported;  high = twos complement output available, 1 V p-p supported; floating = offset binary output available,   2 V p-p (See Datasheet)", 5 REFINA (in) "Reference Voltage Input for Channel A.", 6 REFOUT (out) "Internal Reference Voltage.", 7 REFINB (in) "Reference Voltage Input for Channel B.", 8 S1 (in) "User Select No. 1. See Table 6.", 9 S2 (in) "User Select No. 2. See Table 6.", 10 ~{AINB} (in) "Analog Input for Channel B (Complementary).", 11 AINB (in) "Analog Input for Channel B.", 14 ENCB (in) "Clock Input for Channel B.", 17 D9B (hiz) "Digital Output for Channel B (D9B = MSB).", 18 D8B (hiz) "Digital Output for Channel B (D9B = MSB).", 19 D7B (hiz) "Digital Output for Channel B (D9B = MSB).", 20 D6B (hiz) "Digital Output for Channel B (D9B = MSB).", 21 D5B (hiz) "Digital Output for Channel B (D9B = MSB).", 22 D4B (hiz) "Digital Output for Channel B (D9B = MSB).", 23 D3B (hiz) "Digital Output for Channel B (D9B = MSB).", 24 D2B (hiz) "Digital Output for Channel B (D9B = MSB).", 25 D1B (hiz) "Digital Output for Channel B (D9B = MSB).", 26 D0B (hiz) "Digital Output for Channel B (D9B = MSB).", 35 D0A (hiz) "Digital Output for Channel A (D9A = MSB).", 36 D1A (hiz) "Digital Output for Channel A (D9A = MSB).", 37 D2A (hiz) "Digital Output for Channel A (D9A = MSB).", 38 D3A (hiz) "Digital Output for Channel A (D9A = MSB).", 39 D4A (hiz) "Digital Output for Channel A (D9A = MSB).", 40 D5A (hiz) "Digital Output for Channel A (D9A = MSB).", 41 D6A (hiz) "Digital Output for Channel A (D9A = MSB).", 42 D7A (hiz) "Digital Output for Channel A (D9A = MSB).", 43 D8A (hiz) "Digital Output for Channel A (D9A = MSB).", 44 D9A (hiz) "Digital Output for Channel A (D9A = MSB).", 47 ENCA (in) "Clock Input for Channel A."
part B pins: 1 GND (power) "Ground.", 12 GND (power) "Ground.", 13 VD (power) "Analog Supply (3 V).", 15 VDD (power) "Digital Supply (2.5 V to 3.6 V).", 16 GND (power) "Ground.", 27 GND (power) "Ground.", 28 VDD (power) "Digital Supply (2.5 V to 3.6 V).", 29 GND (power) "Ground.", 30 VD (power) "Analog Supply (3 V).", 31 VD (power) "Analog Supply (3 V).", 32 GND (power) "Ground.", 33 VDD (power) "Digital Supply (2.5 V to 3.6 V).", 34 GND (power) "Ground.", 45 GND (power) "Ground.", 46 VDD (power) "Digital Supply (2.5 V to 3.6 V).", 48 VD (power) "Analog Supply (3 V)."